# Altium footprint library 3. WXQv4.PcbLib: 21 footprints (part 1 of 2)
Each footprint in its own frame and in the unit in brackets; x right, y up, seen from the top. Pads: shape width x height; smd on the part's side, far side on the other; paste and mask are expansions set on the pad; w line width, h text height; cw(c..) or ccw(c..) is an arc to the next point about the centre after c.
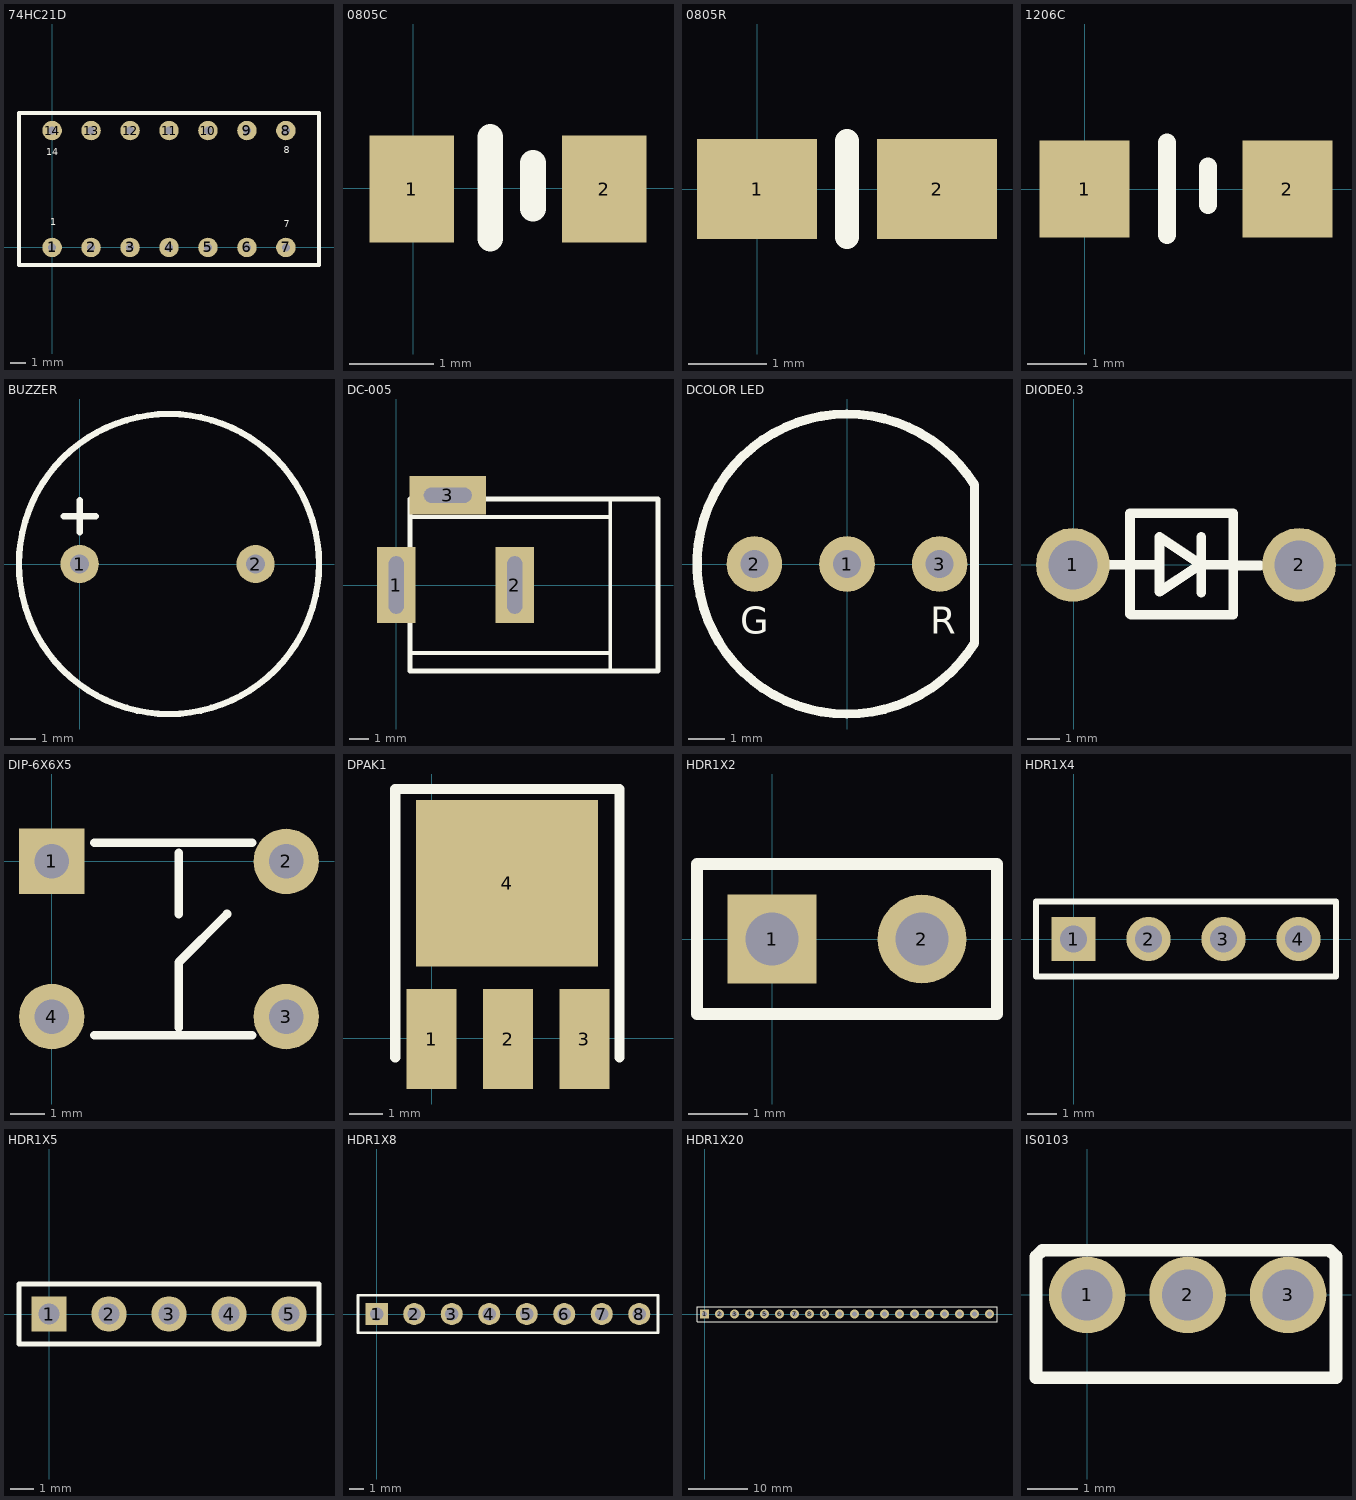
[diagram p0: the footprints below, top view; thin cyan lines are the x and y axes]

## 74HC21D [mil] "SN74HC21D"
pads (14):
  round 50 hole 21: 1(0,0) 2(100,0) 3(200,0) 4(300,0) 5(400,0) 6(500,0) 7(600,0) 8(600,300) 9(500,300) 10(400,300) 11(300,300) 12(200,300) 13(100,300) 14(0,300)
Top Overlay:
  lines w10: -85,-45 -85,345 685,345 685,-45 -85,-45
  text "14" at -15,230 h30
  text "8" at 595,235 h30
  text "7" at 595,45 h30
  text "1" at -5,50 h30

## 0805C [mm]
pads (2):
  rect 1x1.27 smd: 1(-0.018,-0.01) 2(2.268,-0.01)
Top Overlay:
  lines w0.305: 0.915,-0.599 0.914,0.606 ; 1.423,-0.244 1.422,0.301
3D body "0805 SMD Capacitor.STEP": height 0.78, standoff 0, extent 0.143,-0.625 2.143,0.625

## 0805R [mil]
pads (2):
  rect 60x50 smd: 1(0,0) 2(90,0)
Top Overlay:
  lines w12: 45,-24 45,24
3D body "RES0805.STEP": height 15, standoff -1.14, extent 1.26,-24.6 80,24.61

## 1206C [mil]
pads (2):
  rect 60x64.96 smd: 1(0,0) 2(135,0)
Top Overlay:
  lines w12: 54.93,-30.49 54.93,31 ; 82,-10.6 82,14.86
3D body "1206 SMD Capacitor.STEP": height 39.45, standoff 0, extent 2.02,-31.49 128,31.5

## BUZZER [mil]
pads (2):
  round 60 hole 30: 1(0,0) 2(275.59,0)
Top Overlay:
  circle w10: c140,0 r235
  lines w10: -25,75 25,75 ; 0,50 0,100

## DC-005 [mm]
pads (3):
  rect 2x4 hole 0.8 slot 3 at 90 deg: 1(0,0) 2(6.2,0)
  rect 4x2 hole 0.8 slot 2.5 at 0 deg: 3(2.7,4.7)
Top Overlay:
  lines w0.2: 0.716,-3.556 11.2,-3.556 ; 0.716,3.556 11.2,3.556 ; 11.2,-4.5 11.2,4.5
  lines w0.254: 0.716,-4.5 0.716,4.5 13.7,4.5 13.7,-4.5 0.716,-4.5
3D body "DC-005.STEP": height 11.2, standoff -3.8, extent -0.404,-4.523 13.646,4.777

## DCOLOR LED [mil]
pads (3):
  round 60 hole 30: 1(0,0) 2(-100,0) 3(100,0)
Top Overlay:
  lines w10: 137.6,-85.44 cw(c0,0) 137.6,85.44 137.6,-85.44
  text "R" at 90,-85 h50
  text "G" at -115,-85 h50

## DIODE0.3 [mil]
pads (2):
  round 90 hole 60: 1(-1,0) 2(275.59,0)
Top Overlay:
  lines w12: 39,0 69,0 ; 69,-60 69,63 195,63 195,-60 ; 70,-61 195,-61 ; 70,0 103,0 ; 153,-1 105,-33 105,34 156,0 189,0 ; 156,-34 156,34 ; 198,-1 228,-1
3D body: height 118.11, standoff 0, extent 36,-61.5 233,65.5

## DIP-6X6X5 [mm]
pads (4):
  rect 1.9x1.9 hole 1: 1(0,0)
  round 1.9 hole 1: 2(6.8,0) 3(6.8,-4.5) 4(0,-4.5)
Top Overlay:
  lines w0.254: 1.241,-5.044 5.813,-5.044 ; 1.241,0.544 5.813,0.544 ; 3.683,-4.826 3.683,-3.429 3.683,-2.921 5.08,-1.524 ; 3.683,-1.524 3.683,0.254
3D body "DIP-6X6X5.STEP": height 4.95, standoff -3.45, extent -0.804,-5.238 7.408,0.762

## DPAK1 [mm]
pads (4):
  rect 1.5x3 smd: 1(0,-0.025) 2(2.29,-0.025) 3(4.58,-0.025)
  rect 5.45x5 smd: 4(2.261,4.648)
Top Overlay:
  lines w0.305: -1.092,-0.584 -1.092,7.475 ; -1.091,7.475 5.639,7.475 5.639,-0.584
3D body: height 2.8, standoff 0, extent -1.112,1.372 5.664,7.535

## HDR1X2 [mm]
pads (2):
  rect 1.5x1.5 hole 0.9: 1(0,0)
  round 1.5 hole 0.9: 2(2.54,0)
Top Overlay:
  lines w0.2: -1.27,-1.27 -1.27,1.27 3.81,1.27 3.81,-1.27 -1.27,-1.27

## HDR1X4 [mm]
pads (4):
  rect 1.5x1.5 hole 0.9: 1(0,0)
  round 1.5 hole 0.9: 2(2.54,0) 3(5.08,0) 4(7.62,0)
Top Overlay:
  lines w0.2: -1.27,-1.27 -1.27,1.27 8.89,1.27 8.89,-1.27 -1.27,-1.27

## HDR1X5 [mm]
pads (5):
  rect 1.5x1.5 hole 0.9: 1(0,0)
  round 1.5 hole 0.9: 2(2.54,0) 3(5.08,0) 4(7.62,0) 5(10.16,0)
Top Overlay:
  lines w0.2: -1.27,-1.27 -1.27,1.27 11.43,1.27 11.43,-1.27 -1.27,-1.27

## HDR1X8 [mm]
pads (8):
  rect 1.5x1.5 hole 0.9: 1(0,0)
  round 1.5 hole 0.9: 2(2.54,0) 3(5.08,0) 4(7.62,0) 5(10.16,0) 6(12.7,0) 7(15.24,0) 8(17.78,0)
Top Overlay:
  lines w0.2: -1.27,-1.27 -1.27,1.27 19.05,1.27 19.05,-1.27 -1.27,-1.27

## HDR1X20 [mm]
pads (20):
  rect 1.5x1.5 hole 0.9: 1(0,0)
  round 1.5 hole 0.9: 2(2.54,0) 3(5.08,0) 4(7.62,0) 5(10.16,0) 6(12.7,0) 7(15.24,0) 8(17.78,0) 9(20.32,0) 10(22.86,0) 11(25.4,0) 12(27.94,0) 13(30.48,0) 14(33.02,0) 15(35.56,0) 16(38.1,0) 17(40.64,0) 18(43.18,0) 19(45.72,0) 20(48.26,0)
Top Overlay:
  lines w0.2: -1.27,-1.27 49.53,-1.27 49.53,1.27 0.635,1.27 -1.27,1.27 -1.27,-1.27

## IS0103 [mil]
pads (3):
  round 60 hole 40: 1(0,0) 2(78.74,0) 3(157.48,0)
Top Overlay:
  lines w10: -40,-65 195,-65 195,30 190,35 -35,35 -40,30 -40,-65